# Altium integrated library Linear Technology Power Management Switching Regulator LTC1174-LTC3901.IntLib: 2647 symbols (part 262 of 364)
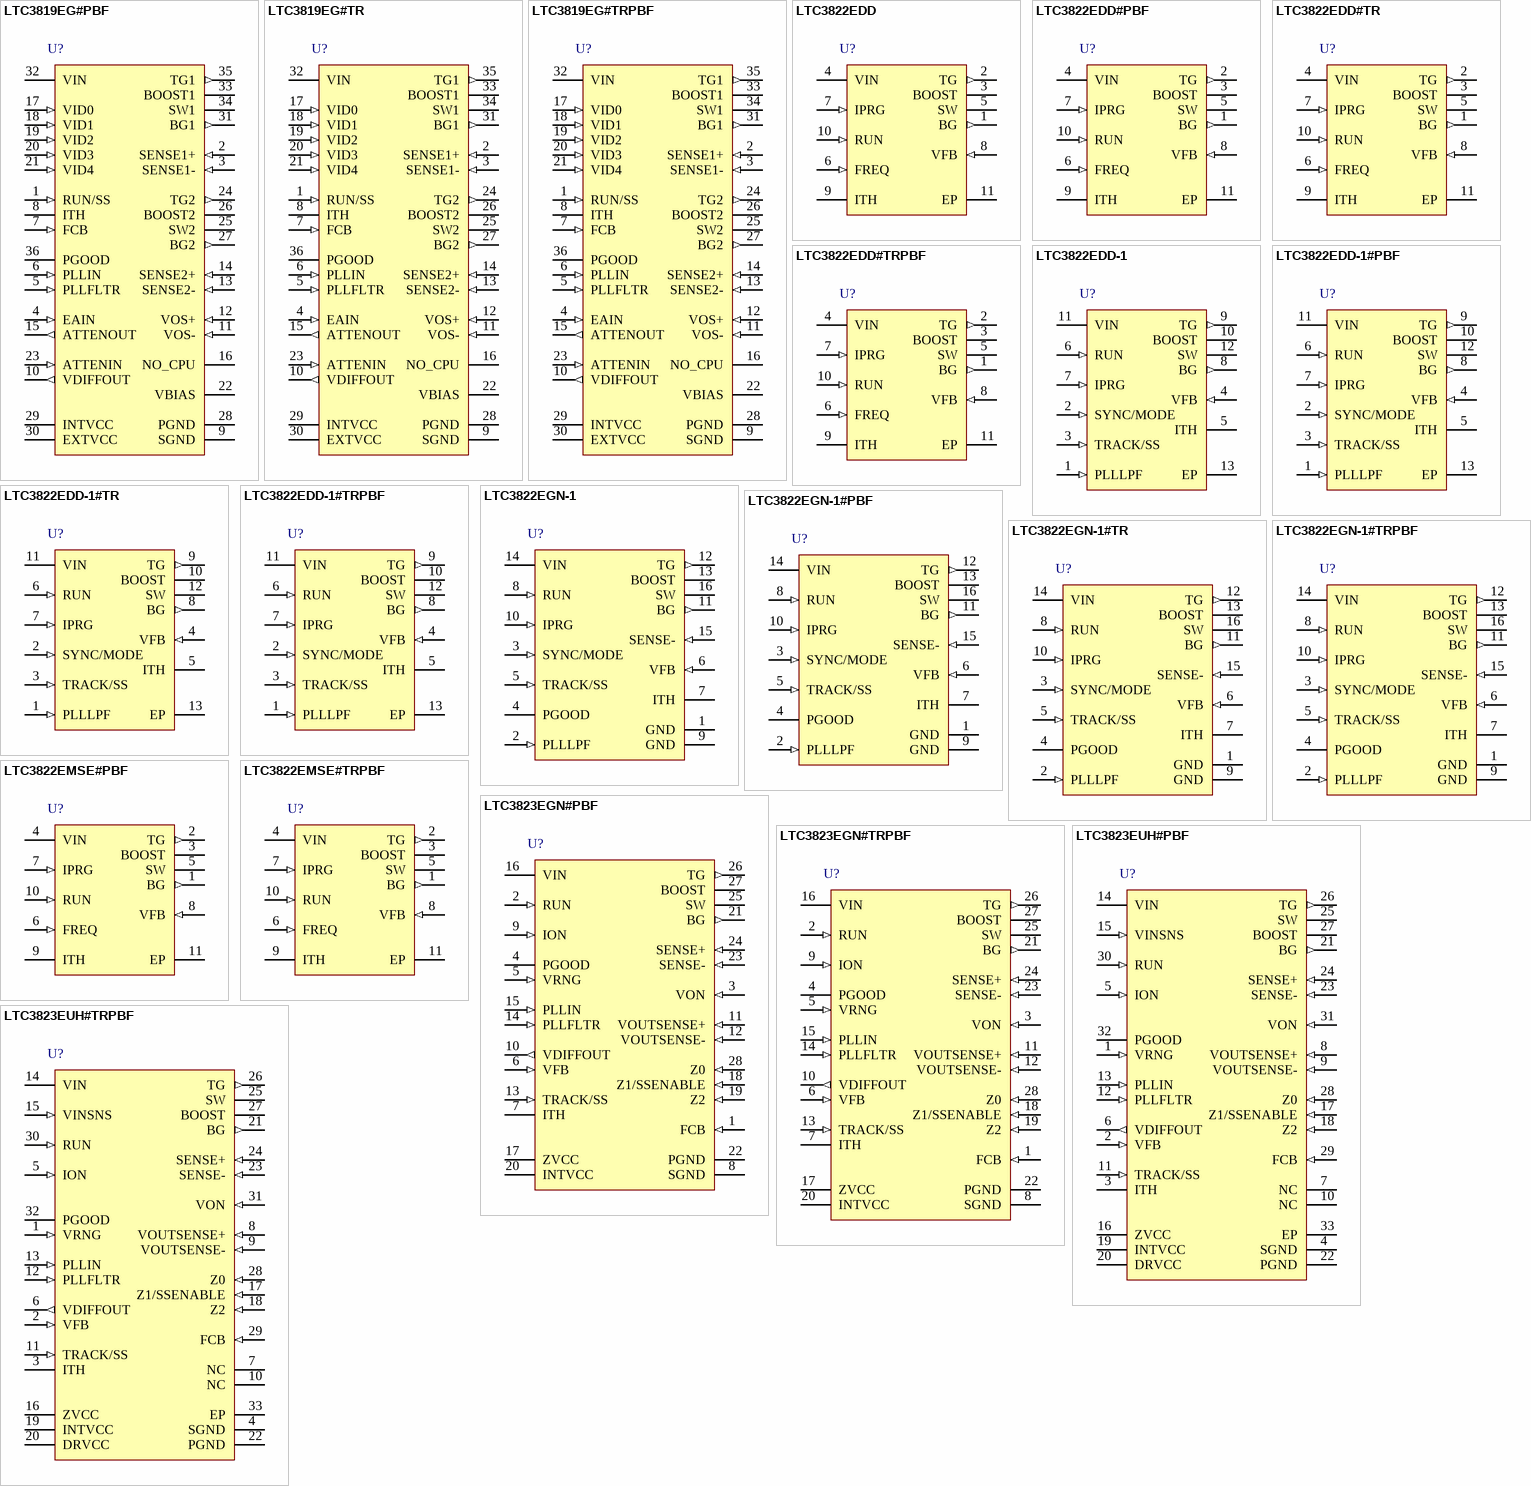
[diagram p350: symbols LTC3819EG#PBF to LTC3823EUH#TRPBF]

## LTC3823EGN#PBF
designator U?
Fast No Rsense Step-Down Synchronous Controller with Differential Output Sensing, Tracking and PLL, 28-pin SOP (GN-28), -40 to 85 degC, Pb-Free; Manufacturer: Linear Technology; PartNumber: LTC3823EGN#PBF; Frequency Sync Range: 100kHz - 1MHz; Number of Outputs: 1; DatasheetVersion: Rev. D; PackageVersion: Rev. B, 03/2012; PackageReference: GN-28; PackageDescription: 28-Pin Plastic SSOP, Body 9.9 x 3.9 mm, Pitch 0.635 mm; Supplier 1: Digi-Key; Supplier Part Number 1: LTC3823EGN#PBF-ND; Supplier 2: Farnell; Supplier Part Number 2: 1715246; RoHS: TRUE; Mounting Technology: Surface Mount; ComponentLink1Description: Manufacturer URL; ComponentLink1URL: http://www.linear.com/; ComponentLink2Description: Datasheet; ComponentLink2URL: http://cds.linear.com/docs/en/datasheet/3823fd.pdf; ComponentLink3Description: Package Specification; ComponentLink3URL: http://cds.linear.com/docs/en/packaging/05081641_B_GN28.pdf
footprint LT-GN-28_N (SOP, 28-Leads, Body 9.98x3.98mm, Pitch 0.635mm, IPC Medium Density)
footprint LT-GN-28_L (SOP, 28-Leads, Body 9.98x3.98mm, Pitch 0.635mm, IPC High Density)
footprint LT-GN-28_M (SOP, 28-Leads, Body 9.98x3.98mm, Pitch 0.635mm, IPC Low Density)
pins: 1 FCB (in) "Forced Continuous Input. Connect this pin to SGND to forced continuous synchronization operation at low load, to INTVCC to enable discontinuous mode operation at low load, or to a resistive divider from a secondary output (See Datasheet)", 2 RUN (in) "Run Control Input. A voltage above 1.5V turns on the IC. Forcing this pin below 1.5V shuts down the device.", 3 VON (in) "On-Time Input. Connecting this pin to the output voltage makes the on-time proportional to VOUT. The comparator input defaults to 0.6V when the pin is grounded and defaults to 4.8V when the pin is tied to INTVCC.", 4 PGOOD (oc) "Power Good Output. Open-drain logic that is pulled to ground when the output voltage is not within +/-11% of the regulation point after the internal 20us power bad mask timer expires.", 5 VRNG (in) "Sense Voltage Range Input. The voltage at this pin is ten times the nominal sense voltage at maximum output current and can be set from 0.5V to 2V by a resistive divider from INTVCC. The nominal sense voltage defaults to (See Datasheet)", 6 VFB (in) "Error Ampli?er Feedback Input. This pin connects the error ampli?er input to an external resistive divider from VOUT.", 7 ITH "Current Control Threshold and Error Ampli?er Compensation Point. The current comparator threshold increases with this control voltage. The voltage ranges from 0V to 2.4V with 0.75V corresponding to zero sense voltage (zer(See Datasheet)", 8 SGND (power) "Signal Ground. All small-signal components and compensation components should connect to this ground, which in turn, connects to PGND at one point.", 9 ION (in) "On-Time Current Input. Tie a resistor from this pin to ground to set the one-shot timer current and thereby, set the switching frequency.", 10 VDIFFOUT (out) "Output of Remote Sensing Differential Amplifier. Connect this to VFB directly or through a resistive divider.", 11 VOUTSENSE+ (in) "This is the positive sense pin for the remote sense differential amplifier. Connect this pin to the positive terminal of the output load capacitor", 12 VOUTSENSE- (in) "This is the negative sense pin for the remote sense differential amplifier. Connect this pin to the negative terminal of the output load capacitor.", 13 TRACK/SS (in) "Output Voltage Tracking and Soft-Start Input. When the IC is configured to be the master of two outputs, a capacitor to ground at this pin sets the ramp rate for the output voltage. When the IC is configured to be (See Datasheet)", 14 PLLFLTR (in) "The phase-locked loop's lowpass filter is tied to this pin. The voltage at this pin defaults to 1.180V when the IC is not synchronized with an external clock at the PLLIN pin.", 15 PLLIN (in) "External Synchronization Input to Phase Detector. This pin is internally terminated to SGND with a 50k resistor.", 16 VIN (power) "Main Input Supply. Decouple this to PGND with a capacitor (0.1uF to 1uF).", 17 ZVCC (power) "Post-Package Zener Trim Supply. Under normal conditions this pin should always be connected to INTVCC.", 18 Z1/SSENABLE (in) "Post-Package Zener Trim Control. This pin is a multifunctional pin used in production for post-package trimming and tracking. Ground this pin under normal soft-start operation. Connecting this pin to INTVCC will turn off the (See Datasheet)", 19 Z2 (in) "Post-Package Zener Trim Control. This pin is used in production for post-package trimming. Ground this pin under normal operation.", 20 INTVCC (power) "Internal 5V Regulated Output. The control circuits are powered from this voltage. Decouple this pin to PGND with a minimum of 4.7uF low ESR tantalum or ceramic capacitor.", 21 BG (out) "Gate Driver Output. This pin drives the gate of the bottom N-channel MOSFET between ground and INTVCC.", 22 PGND (power) "Power Ground. Connect this pin closely to the source of the bottom N-channel MOSFET, the (-) terminal of CVCC and CIN", 23 SENSE- (in) "Current Sense Comparator Input. The negative input to the current comparator is used to accurately Kelvin sense the bottom side of the sense resistor or MOSFET.", 24 SENSE+ (in) "Current Sense Comparator Input. The positive input to the current comparator is normally connected to the SW node unless using a sense resistor.", 25 SW "Switch Node. The (-) terminal of the bootstrap capacitor, CB, connects here. This pin swings from a diode drop below ground up to VIN.", 26 TG (out) "Top Gate Drive Output. This pin drives the top N-channel MOSFET with a voltage swing equal to INTVCC, superimposed on the switch node voltage SW.", 27 BOOST "Boosted Floating Driver Supply. The (+) terminal of the bootstrap capacitor, CB, connects here. This pin swings from a diode voltage drop below INTVCC up to VIN + INTVCC.", 28 Z0 (in) "Dead Time Control Input. Applying a DC voltage at this pin will vary the dead time between TG low and BG high transition. Do not force a voltage higher than INTVCC on this pin."

## LTC3823EGN#TRPBF
designator U?
Fast No Rsense Step-Down Synchronous Controller with Differential Output Sensing, Tracking and PLL, 28-pin SOP (GN-28), -40 to 85 degC, Pb-Free, Tape and Reel; Manufacturer: Linear Technology; PartNumber: LTC3823EGN#TRPBF; Frequency Sync Range: 100kHz - 1MHz; Number of Outputs: 1; DatasheetVersion: Rev. D; PackageVersion: Rev. B, 03/2012; PackageReference: GN-28; PackageDescription: 28-Pin Plastic SSOP, Body 9.9 x 3.9 mm, Pitch 0.635 mm; Supplier 1: Digi-Key; Supplier Part Number 1: LTC3823EGN#TRPBF-ND; Packing: Tape and Reel; RoHS: TRUE; Mounting Technology: Surface Mount; ComponentLink1Description: Manufacturer URL; ComponentLink1URL: http://www.linear.com/; ComponentLink2Description: Datasheet; ComponentLink2URL: http://cds.linear.com/docs/en/datasheet/3823fd.pdf; ComponentLink3Description: Package Specification; ComponentLink3URL: http://cds.linear.com/docs/en/packaging/05081641_B_GN28.pdf
footprint LT-GN-28_N (SOP, 28-Leads, Body 9.98x3.98mm, Pitch 0.635mm, IPC Medium Density)
footprint LT-GN-28_L (SOP, 28-Leads, Body 9.98x3.98mm, Pitch 0.635mm, IPC High Density)
footprint LT-GN-28_M (SOP, 28-Leads, Body 9.98x3.98mm, Pitch 0.635mm, IPC Low Density)
pins: 1 FCB (in) "Forced Continuous Input. Connect this pin to SGND to forced continuous synchronization operation at low load, to INTVCC to enable discontinuous mode operation at low load, or to a resistive divider from a secondary output (See Datasheet)", 2 RUN (in) "Run Control Input. A voltage above 1.5V turns on the IC. Forcing this pin below 1.5V shuts down the device.", 3 VON (in) "On-Time Input. Connecting this pin to the output voltage makes the on-time proportional to VOUT. The comparator input defaults to 0.6V when the pin is grounded and defaults to 4.8V when the pin is tied to INTVCC.", 4 PGOOD (oc) "Power Good Output. Open-drain logic that is pulled to ground when the output voltage is not within +/-11% of the regulation point after the internal 20us power bad mask timer expires.", 5 VRNG (in) "Sense Voltage Range Input. The voltage at this pin is ten times the nominal sense voltage at maximum output current and can be set from 0.5V to 2V by a resistive divider from INTVCC. The nominal sense voltage defaults to (See Datasheet)", 6 VFB (in) "Error Ampli?er Feedback Input. This pin connects the error ampli?er input to an external resistive divider from VOUT.", 7 ITH "Current Control Threshold and Error Ampli?er Compensation Point. The current comparator threshold increases with this control voltage. The voltage ranges from 0V to 2.4V with 0.75V corresponding to zero sense voltage (zer(See Datasheet)", 8 SGND (power) "Signal Ground. All small-signal components and compensation components should connect to this ground, which in turn, connects to PGND at one point.", 9 ION (in) "On-Time Current Input. Tie a resistor from this pin to ground to set the one-shot timer current and thereby, set the switching frequency.", 10 VDIFFOUT (out) "Output of Remote Sensing Differential Amplifier. Connect this to VFB directly or through a resistive divider.", 11 VOUTSENSE+ (in) "This is the positive sense pin for the remote sense differential amplifier. Connect this pin to the positive terminal of the output load capacitor", 12 VOUTSENSE- (in) "This is the negative sense pin for the remote sense differential amplifier. Connect this pin to the negative terminal of the output load capacitor.", 13 TRACK/SS (in) "Output Voltage Tracking and Soft-Start Input. When the IC is configured to be the master of two outputs, a capacitor to ground at this pin sets the ramp rate for the output voltage. When the IC is configured to be (See Datasheet)", 14 PLLFLTR (in) "The phase-locked loop's lowpass filter is tied to this pin. The voltage at this pin defaults to 1.180V when the IC is not synchronized with an external clock at the PLLIN pin.", 15 PLLIN (in) "External Synchronization Input to Phase Detector. This pin is internally terminated to SGND with a 50k resistor.", 16 VIN (power) "Main Input Supply. Decouple this to PGND with a capacitor (0.1uF to 1uF).", 17 ZVCC (power) "Post-Package Zener Trim Supply. Under normal conditions this pin should always be connected to INTVCC.", 18 Z1/SSENABLE (in) "Post-Package Zener Trim Control. This pin is a multifunctional pin used in production for post-package trimming and tracking. Ground this pin under normal soft-start operation. Connecting this pin to INTVCC will turn off the (See Datasheet)", 19 Z2 (in) "Post-Package Zener Trim Control. This pin is used in production for post-package trimming. Ground this pin under normal operation.", 20 INTVCC (power) "Internal 5V Regulated Output. The control circuits are powered from this voltage. Decouple this pin to PGND with a minimum of 4.7uF low ESR tantalum or ceramic capacitor.", 21 BG (out) "Gate Driver Output. This pin drives the gate of the bottom N-channel MOSFET between ground and INTVCC.", 22 PGND (power) "Power Ground. Connect this pin closely to the source of the bottom N-channel MOSFET, the (-) terminal of CVCC and CIN", 23 SENSE- (in) "Current Sense Comparator Input. The negative input to the current comparator is used to accurately Kelvin sense the bottom side of the sense resistor or MOSFET.", 24 SENSE+ (in) "Current Sense Comparator Input. The positive input to the current comparator is normally connected to the SW node unless using a sense resistor.", 25 SW "Switch Node. The (-) terminal of the bootstrap capacitor, CB, connects here. This pin swings from a diode drop below ground up to VIN.", 26 TG (out) "Top Gate Drive Output. This pin drives the top N-channel MOSFET with a voltage swing equal to INTVCC, superimposed on the switch node voltage SW.", 27 BOOST "Boosted Floating Driver Supply. The (+) terminal of the bootstrap capacitor, CB, connects here. This pin swings from a diode voltage drop below INTVCC up to VIN + INTVCC.", 28 Z0 (in) "Dead Time Control Input. Applying a DC voltage at this pin will vary the dead time between TG low and BG high transition. Do not force a voltage higher than INTVCC on this pin."